# Altium footprint library tyco-term-block.PcbLib: 17 footprints (part 2 of 2)
Each footprint in its own frame and in the unit in brackets; x right, y up, seen from the top. Pads: shape width x height; smd on the part's side, far side on the other; paste and mask are expansions set on the pad; w line width, h text height; cw(c..) or ccw(c..) is an arc to the next point about the centre after c.
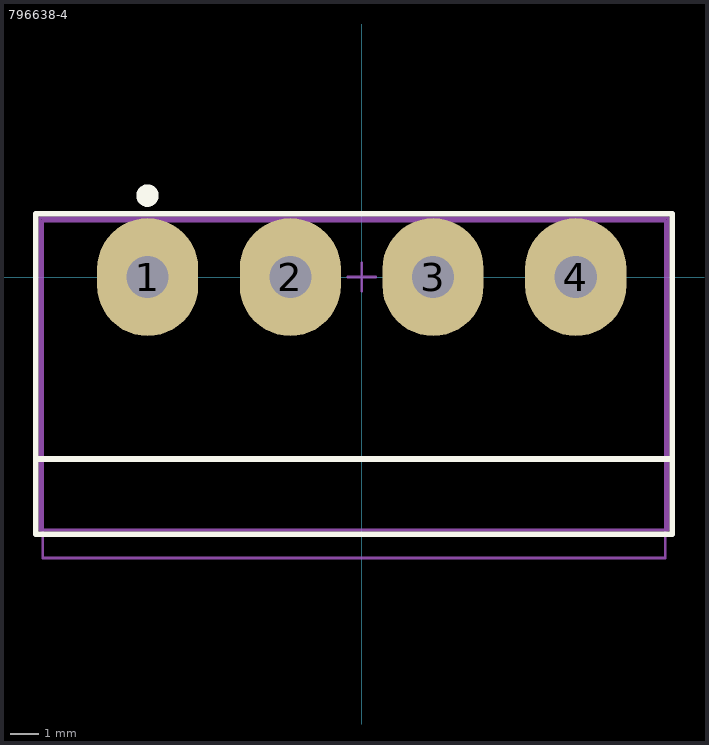
[diagram p1: the footprint, top view; thin cyan lines are the x and y axes]

## 796638-4 [mm] "4 Pos, Terminal Block, Header Assembly, 90dg, 5.08mm Pitch"
height 8.35
pads (4):
  oval 3.6x4.2 hole 1.5: 1(-7.62,0) 2(-2.54,0) 3(2.54,0) 4(7.62,0)
Top Overlay:
  circle w0.4: c-7.625,2.9 r0.2
  lines w0.2: -11.6,-6.475 11.05,-6.475 ; -11.6,-9.15 11.05,-9.15 11.05,2.25 -11.6,2.25 -11.6,-9.15
Mechanical 13:
  lines w0.1: -0.5,0 0.5,0 ; 0,-0.5 0,0.5 ; -11.35,-10 10.8,-10 10.8,2 -11.35,2 -11.35,-10
Mechanical 15:
  lines w0.1: -11.45,-9 10.9,-9 10.9,2.1 -11.45,2.1 -11.45,-9
  text ".Designator" at -4.13,-3.45 h0.5
3D body "c-796638-4-c3-3d.stp": height 8.37, standoff -3.48, extent -11.32,-10.025 10.82,1.975